# EAGLE library part 27P (library con-dg55)
DEGSON DG55 CONNECTOR
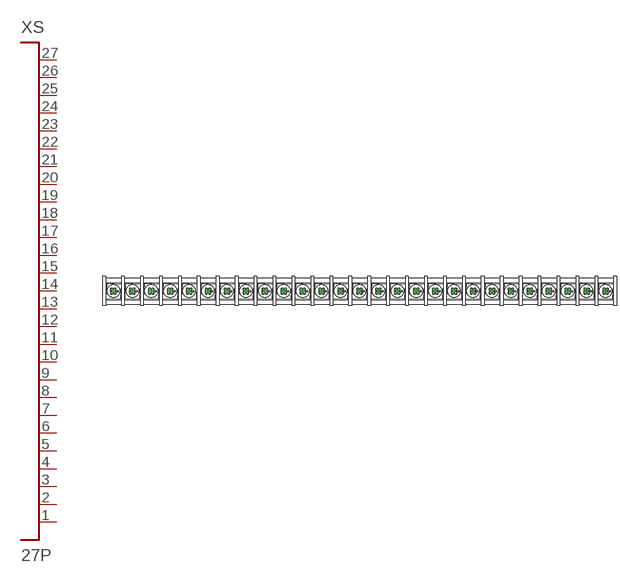
[diagram p21: symbol with the pads of DG55CB-27P-1; footprint DG55CB-27P-1]

Designator prefix XS

## 27P  [DG55CB-27P-1]
1  P$1
2  P$2
3  P$3
4  P$4
5  P$5
6  P$6
7  P$7
8  P$8
9  P$9
10  P$10
11  P$11
12  P$12
13  P$13
14  P$14
15  P$15
16  P$16
17  P$17
18  P$18
19  P$19
20  P$20
21  P$21
22  P$22
23  P$23
24  P$24
25  P$25
26  P$26
27  P$27

## Footprint DG55CB-27P-1 (pad centres in mm)
DG55
drill 1.8 pad 3.6: 1 -130,0; 2 -120,0; 3 -110,0; 4 -100,0; 5 -90,0; 6 -80,0; 7 -70,0; 8 -60,0; 9 -50,0; 10 -40,0; 11 -30,0; 12 -20,0; 13 -10,0; 14 0,0; 15 10,0; 16 20,0; 17 30,0; 18 40,0; 19 50,0; 20 60,0; 21 70,0; 22 80,0; 23 90,0; 24 100,0; 25 110,0; 26 120,0; 27 130,0